# EAGLE library part 6120XX22323_61203422323 (library Wurth_Connectors_WR-BHD)
WR-BHD 2.54 mm Board to Cable Transition Connector KIND PROPERTIES: Pitch 2.54 mm Gender:Transition MATERIAL PROPERTIES: Insulator Material:PBT Insulator Flammability Rating UL94 V-0 Insulator Color:Black Contact Material :Copper Alloy Contact Plating :Gold Contact Type: Stamped GENERAL INFORMATION: Operating Temperature:-40 °C up to +125 °C Compliance:RoHS Working Voltage: 250 V (AC) Withstanding Voltage:500 V (AC) Contact Resistance: 20 mΩ Insulation Resistance:1000 MΩ CERTIFICATION UL Approval:E323964 PACKAGING PROPERTIES Packaging :Tray <https://www.we-online.de/katalog/media/o32892v209%20Family_WR-BHD_6120xx22323.jpg> Details see: https://www.we-online.de/katalog/en/em/BHD_2_54_BOARD_TO_CAB_TRANSITION_CONNECTOR_6120XX22323 Updated by Yingchun,Shan 2019-10-31 2019 (C) Würth Elektronik
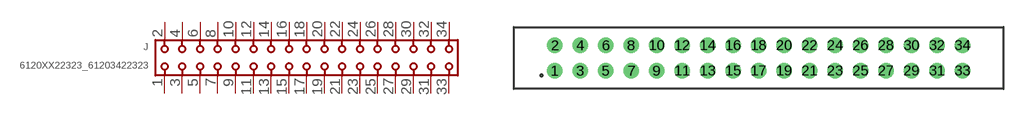
[diagram p9: symbol with the pads of 61203422323; footprint 61203422323]

Designator prefix J

## 6120XX22323_61203422323 (CONTACT-RESISTANCE: 20mOhm; DATASHEET-URL: https://www.we-online.com/redexpert/spec/61203422323?ae; GENDER: Transition; IR: 1A; LENGTH: 48.63mm; MOUNT: THT; PACKAGING: Tray; PART-NUMBER: 61203422323; PINS: 34; PITCH: 2.54mm; TYPE: Straight; VALUE: 61203422323; WORKING-VOLTAGE: 250V(AC))  [61203422323]
1  1  pas
2  2  pas
3  3  pas
4  4  pas
5  5  pas
6  6  pas
7  7  pas
8  8  pas
9  9  pas
10  10  pas
11  11  pas
12  12  pas
13  13  pas
14  14  pas
15  15  pas
16  16  pas
17  17  pas
18  18  pas
19  19  pas
20  20  pas
21  21  pas
22  22  pas
23  23  pas
24  24  pas
25  25  pas
26  26  pas
27  27  pas
28  28  pas
29  29  pas
30  30  pas
31  31  pas
32  32  pas
33  33  pas
34  34  pas

## Footprint 61203422323 (pad centres in mm)
WR-BHD 2.54mm Board to Cable Transition Connector, 34 Pins
drill 1.02: 1 -21.59,-1.27; 2 -21.59,1.27; 3 -19.05,-1.27; 4 -19.05,1.27; 5 -16.51,-1.27; 6 -16.51,1.27; 7 -13.97,-1.27; 8 -13.97,1.27; 9 -11.43,-1.27; 10 -11.43,1.27; 11 -8.89,-1.27; 12 -8.89,1.27; 13 -6.35,-1.27; 14 -6.35,1.27; 15 -3.81,-1.27; 16 -3.81,1.27; 17 -1.27,-1.27; 18 -1.27,1.27; 19 1.27,-1.27; 20 1.27,1.27; 21 3.81,-1.27; 22 3.81,1.27; 23 6.35,-1.27; 24 6.35,1.27; 25 8.89,-1.27; 26 8.89,1.27; 27 11.43,-1.27; 28 11.43,1.27; 29 13.97,-1.27; 30 13.97,1.27; 31 16.51,-1.27; 32 16.51,1.27; 33 19.05,-1.27; 34 19.05,1.27